# EAGLE library part GTIA (library atari)
GTIA
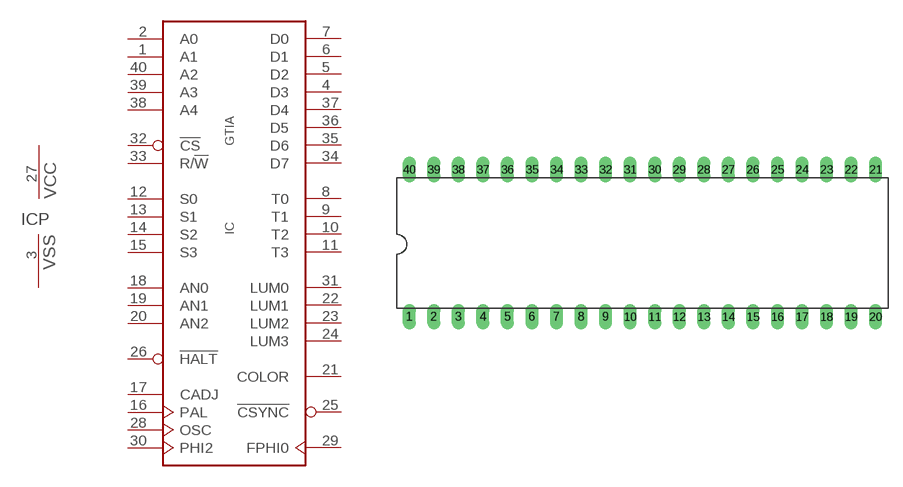
[diagram p11: symbol with the pads of DIL40; footprint DIL40]

Designator prefix IC; gates P=VCCVSS =GTIA

## GTIA  [DIL40]
1  :A1  in
2  :A0  in
3  P:VSS  pwr
4  :D3  out
5  :D2  out
6  :D1  out
7  :D0  out
8  :T0  in
9  :T1  in
10  :T2  in
11  :T3  in
12  :S0
13  :S1
14  :S2  out
15  :S3  out
16  :PAL  in
17  :CADJ  in
18  :AN0  in
19  :AN1  in
20  :AN2  in
21  :COLOR  out
22  :LUM1  out
23  :LUM2  out
24  :LUM3  out
25  :!CSYNC  out
26  :!HALT  in
27  P:VCC  pwr
28  :OSC  in
29  :FPHI0  out
30  :PHI2  in
31  :LUM0  out
32  :!CS  in
33  :R/!W  in
34  :D7  out
35  :D6  out
36  :D5  out
37  :D4  out
38  :A4  in
39  :A3  in
40  :A2  in

## Footprint DIL40 (pad centres in mm)
drill 0.813 long: 1 -24.13,-7.62; 2 -21.59,-7.62; 3 -19.05,-7.62; 4 -16.51,-7.62; 5 -13.97,-7.62; 6 -11.43,-7.62; 7 -8.89,-7.62; 8 -6.35,-7.62; 9 -3.81,-7.62; 10 -1.27,-7.62; 11 1.27,-7.62; 12 3.81,-7.62; 13 6.35,-7.62; 14 8.89,-7.62; 15 11.43,-7.62; 16 13.97,-7.62; 17 16.51,-7.62; 18 19.05,-7.62; 19 21.59,-7.62; 20 24.13,-7.62; 21 24.13,7.62; 22 21.59,7.62; 23 19.05,7.62; 24 16.51,7.62; 25 13.97,7.62; 26 11.43,7.62; 27 8.89,7.62; 28 6.35,7.62; 29 3.81,7.62; 30 1.27,7.62; 31 -1.27,7.62; 32 -3.81,7.62; 33 -6.35,7.62; 34 -8.89,7.62; 35 -11.43,7.62; 36 -13.97,7.62; 37 -16.51,7.62; 38 -19.05,7.62; 39 -21.59,7.62; 40 -24.13,7.62